# Altium schematic symbol library Komponente.SchLib: 4 symbols
Pins are listed as number, name and electrical type; pins without a type are passive.

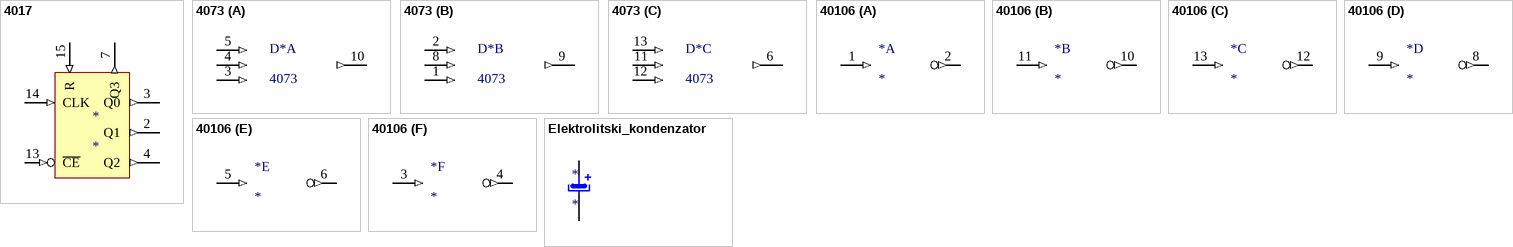
[diagram p0: symbols 4017 to Elektrolitski_kondenzator]

## 4017
designator *
pins: 2 Q1 (out), 3 Q0 (out), 4 Q2 (out), 7 Q3 (out), 8 GND (power) hidden to GND, 13 ~{CE} (in), 14 CLK (in), 15 R (in), 16 VCC (power) hidden to VCC

## 4073
designator D*
pins on every part: 7 GND (power) hidden to GND, 14 VCC (power) hidden to VCC
part A pins: 3 (in), 4 (in), 5 (in), 10 (out)
part B pins: 1 (in), 2 (in), 8 (in), 9 (out)
part C pins: 6 (out), 11 (in), 12 (in), 13 (in)

## 40106
designator *
pins on every part: 14 VCC (power) hidden to VCC
part A pins: 1 (in), 2 (out), 7 GND (power) hidden to GND
part B pins: 10 (out), 11 (in)
part C pins: 12 (out), 13 (in)
part D pins: 8 (out), 9 (in)
part E pins: 5 (in), 6 (out)
part F pins: 3 (in), 4 (out)

## Elektrolitski_kondenzator
designator *
pins: 1, 2